# Altium footprint library SM_L_7.2MMx6.65MMx3MM.PcbLib: 1 footprints
Each footprint in its own frame and in the unit in brackets; x right, y up, seen from the top. Pads: shape width x height; smd on the part's side, far side on the other; paste and mask are expansions set on the pad; w line width, h text height; cw(c..) or ccw(c..) is an arc to the next point about the centre after c.
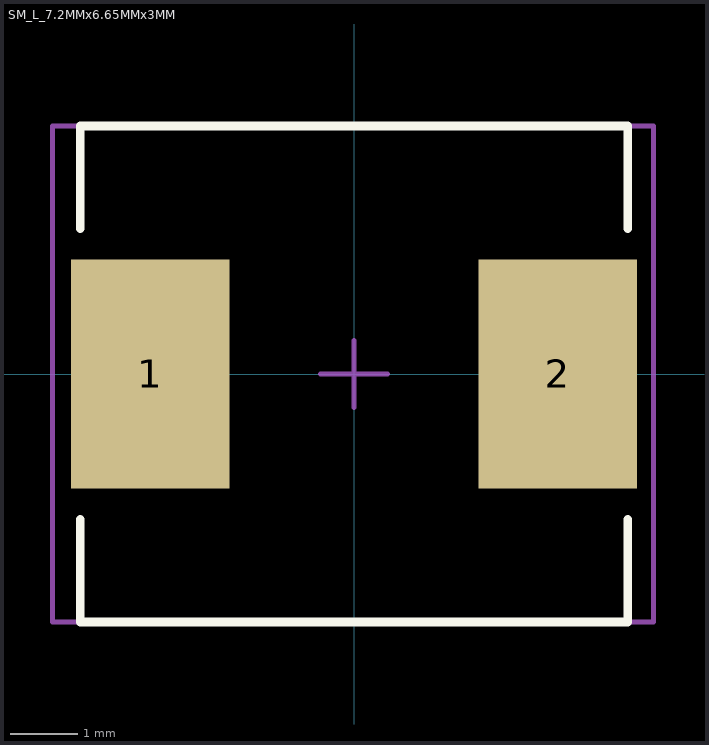
[diagram p0: the footprint, top view; thin cyan lines are the x and y axes]

## SM_L_7.2MMx6.65MMx3MM [mm] "7.2mm x 6.65mm x 3mm"
height 3
pads (2):
  rect 2.35x3.4 smd: 1(-3.025,0) 2(3.025,0)
Top Overlay:
  lines w0.127: -4.064,-2.159 -4.064,-3.683 4.064,-3.683 4.064,-2.159 ; -4.064,2.159 -4.064,3.683 4.064,3.683 4.064,2.159
Mechanical 15:
  lines w0.076: -0.5,0 0.5,0 ; 0,-0.5 0,0.5 ; -4.475,-3.683 -4.475,3.683 4.45,3.683 4.45,-3.683 -4.475,-3.683
3D body: height 3, standoff 0, extent -3.75,-3.425 3.75,3.425